# Altium footprint library NR6028.PcbLib: 1 footprints
Each footprint in its own frame and in the unit in brackets; x right, y up, seen from the top. Pads: shape width x height; smd on the part's side, far side on the other; paste and mask are expansions set on the pad; w line width, h text height; cw(c..) or ccw(c..) is an arc to the next point about the centre after c.
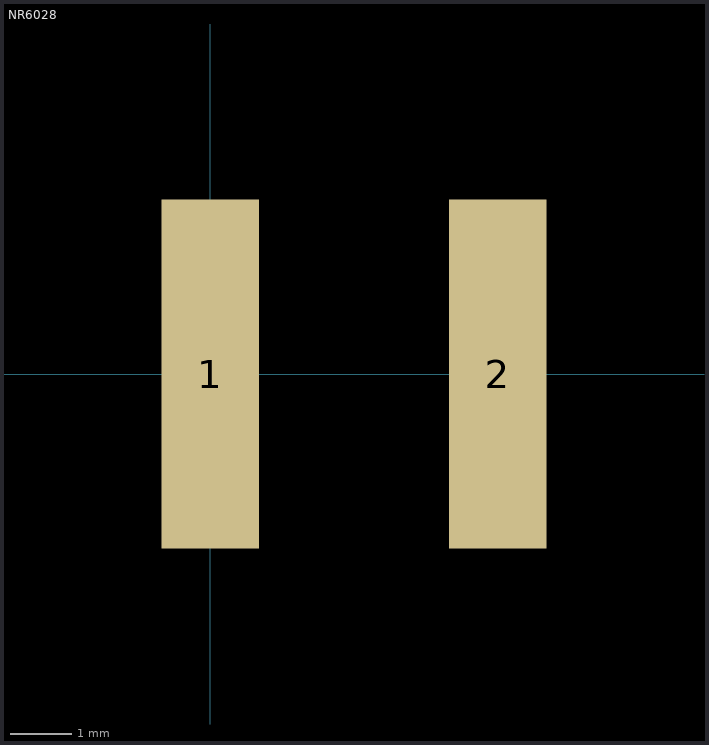
[diagram p0: the footprint, top view; thin cyan lines are the x and y axes]

## NR6028 [mm]
height 0.813
pads (2):
  rect 1.6x5.7 smd: 1(0,0) 2(4.7,0)
3D body: height 2.83, standoff 0.04, extent -0.681,-3.005 5.319,2.995